# Altium footprint library ImegurasLib.PcbLib: 9 footprints
Each footprint in its own frame and in the unit in brackets; x right, y up, seen from the top. Pads: shape width x height; smd on the part's side, far side on the other; paste and mask are expansions set on the pad; w line width, h text height; cw(c..) or ccw(c..) is an arc to the next point about the centre after c.
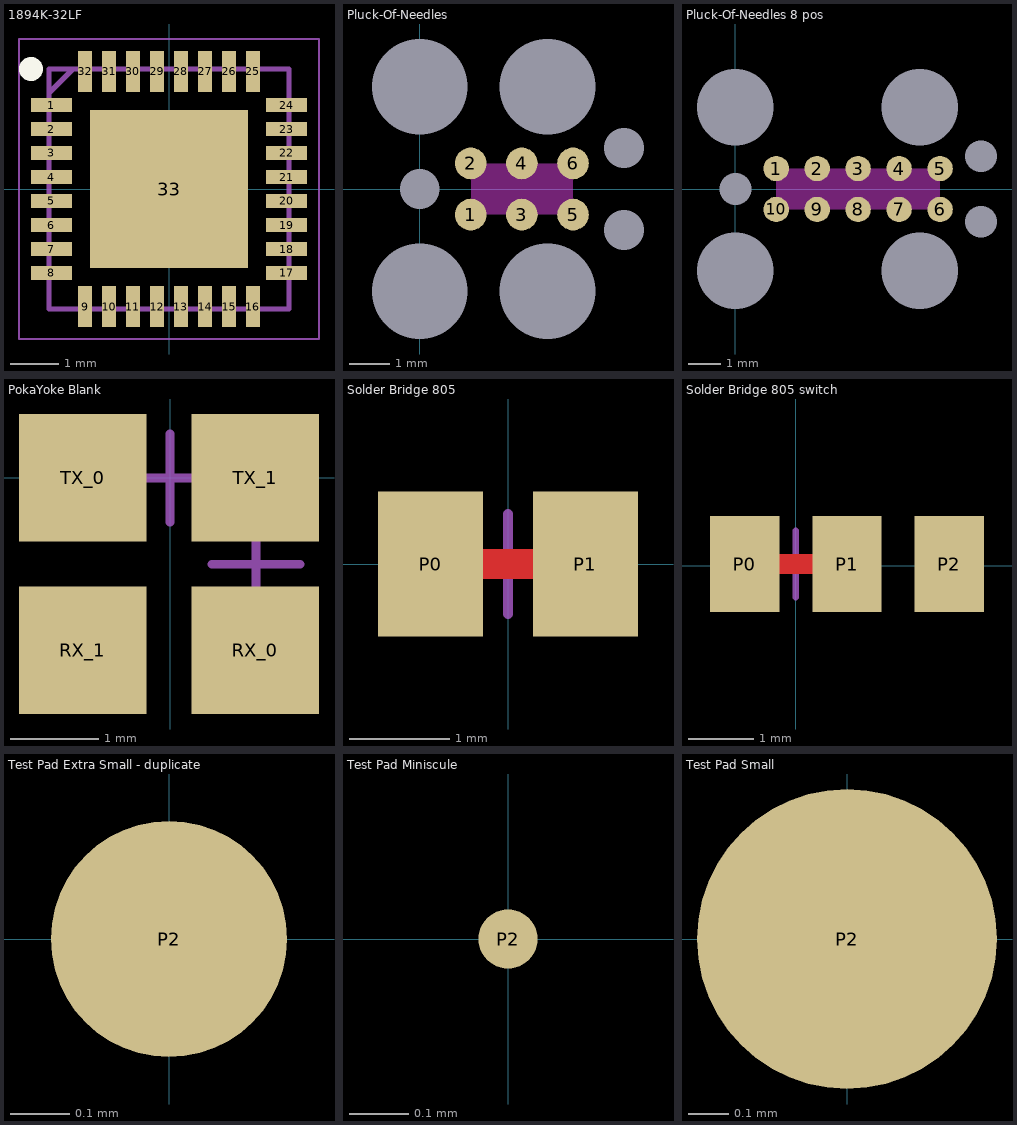
[diagram p0: the footprints below, top view; thin cyan lines are the x and y axes]

## 1894K-32LF [mm]
pads (33):
  rect 0.85x0.3 smd: 1(-2.45,1.75) 2(-2.45,1.25) 3(-2.45,0.75) 4(-2.45,0.25) 5(-2.45,-0.25) 6(-2.45,-0.75) 7(-2.45,-1.25) 8(-2.45,-1.75) 17(2.45,-1.75) 18(2.45,-1.25) 19(2.45,-0.75) 20(2.45,-0.25) 21(2.45,0.25) 22(2.45,0.75) 23(2.45,1.25) 24(2.45,1.75)
  rect 0.3x0.85 smd: 9(-1.75,-2.45) 10(-1.25,-2.45) 11(-0.75,-2.45) 12(-0.25,-2.45) 13(0.25,-2.45) 14(0.75,-2.45) 15(1.25,-2.45) 16(1.75,-2.45) 25(1.75,2.45) 26(1.25,2.45) 27(0.75,2.45) 28(0.25,2.45) 29(-0.25,2.45) 30(-0.75,2.45) 31(-1.25,2.45) 32(-1.75,2.45)
  rect 3.3x3.3 smd: 33(0,0)
Top Overlay:
  circle w0.25: c-2.875,2.5 r0.125
Mechanical 15:
  lines w0.1: -2.5,2 -2,2.5 ; -2.5,-2.5 -2.5,2.5 2.5,2.5 2.5,-2.5 -2.5,-2.5
Mechanical 20:
  lines w0.05: -3.125,-3.125 -3.125,3.125 3.125,3.125 3.125,-3.125 -3.125,-3.125
3D body "1894K-32LF.stp": height 1, standoff 0, extent -2.55,-2.55 2.55,2.55

## Pluck-Of-Needles [mil] "A proprietary solderless JTAG disposition"
pads (13):
  round 30.98 smd: 1(50,-25) 2(50,25) 3(100,-25) 4(100,25) 5(150,-25) 6(150,25)
  round 0 hole 93.5 unplated: H0(0,-100) H0(0,100) H0(125,-100) H0(125,100)
  round 0 hole 39 unplated: H0(0,0) H0(200,-40) H0(200,40)
Top Layer keep-out:
  rectangle: 50,-25 150,25

## Pluck-Of-Needles 8 pos [mil] "A proprietary solderless JTAG disposition"
pads (17):
  round 30.98 smd: 1(50,25) 2(100,25) 3(150,25) 4(200,25) 5(250,25) 6(250,-25) 7(200,-25) 8(150,-25) 9(100,-25) 10(50,-25)
  round 0 hole 93.5 unplated: H0(0,-100) H0(0,100) H0(225,-100) H0(225,100)
  round 0 hole 39 unplated: H0(0,0) H0(300,-40) H0(300,40)
Top Layer keep-out:
  rectangle: 50,-25 250,25

## PokaYoke Blank [mm] "An solderbridge variation meant to permit crossover to straightrough variations easily"
pads (4):
  rect 1.45x1.45 smd: RX_0(0.965,-1.956) RX_1(-0.991,-1.956) TX_0(-0.991,0) TX_1(0.965,0)
Top Solder:
  region: -0.229,0.711 0.203,0.711 0.203,-0.711 -0.229,-0.711
  region: 0.263,-1.208 0.263,-0.777 1.686,-0.777 1.686,-1.208
  region: -1.696,-1.198 -1.696,-0.766 -0.273,-0.766 -0.273,-1.198
  region: 0.233,-2.661 -0.199,-2.661 -0.199,-1.239 0.233,-1.239
Mechanical 15:
  lines w0.1: -0.5,0 0.5,0 ; 0,-0.5 0,0.5 ; 0.474,-0.98 1.474,-0.98 ; 0.974,-1.48 0.974,-0.48

## Solder Bridge 805 [mm] "Closed Solder Bridge"
height 0.59
pads (2):
  rect 1.05x1.45 smd: P0(-0.775,0) P1(0.775,0)
Top Layer:
  lines w0.3: -0.381,0 0.381,0
Top Solder:
  region: -0.229,0.711 0.203,0.711 0.203,-0.711 -0.229,-0.711
Mechanical 15:
  lines w0.1: -0.5,0 0.5,0 ; 0,-0.5 0,0.5

## Solder Bridge 805 switch [mm] "Closed Solder Bridge"
height 0.59
pads (3):
  rect 1.05x1.45 smd: P0(-0.775,0.025) P1(0.775,0.025) P2(2.324,0.025)
Top Layer:
  lines w0.3: -0.381,0.025 0.381,0.025
Top Solder:
  region: 1.295,0.737 1.727,0.737 1.727,-0.686 1.295,-0.686
  region: -0.229,0.737 0.203,0.737 0.203,-0.686 -0.229,-0.686
Mechanical 15:
  lines w0.1: -0.5,0.025 0.5,0.025 ; 0,-0.475 0,0.525

## Test Pad Extra Small - duplicate [mm] "A small test pad for HF applications"
pads (1):
  round 0.4 smd mask+0.051: P2(0,0)

## Test Pad Miniscule [mm] "A small test pad for HF applications"
pads (1):
  round 0.1 smd mask+0.051: P2(0,0)

## Test Pad Small [mm] "A small test pad for HF applications"
pads (1):
  round 0.75 smd mask+0.051: P2(0,0)